# EAGLE library part MAX485 (library rhoban)
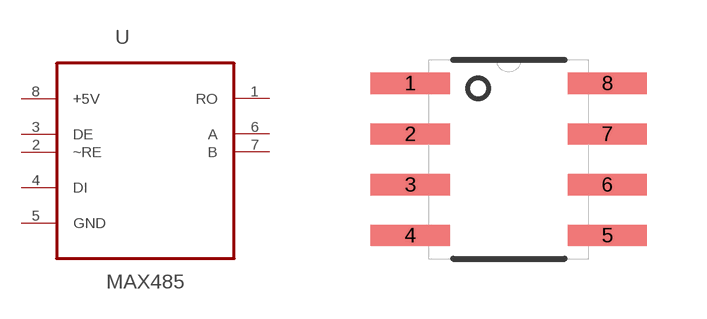
[diagram p0: symbol with the pads of SO8; footprint SO8]

Designator prefix U

## MAX485 (DATASHEET: max485.pdf; DESCRIPTION: ±15kV ESD-Protected, Slew-Rate-Limited, Low-Power, RS-485/RS-422 Transceivers; FARNELL_LINK: http://fr.farnell.com/maxim-integrated-products/max485eesa/transceiver-rs-485-422-cms/dp/1379973?Ntt=1379973; MPN: MAX485EESA+; OC_FARNELL: 1379973; OC_NEWARK: 68K4798; PACKAGE: SOIC-8; SUPPLIER: Maxim)  [SO8]
1  RO  out
2  ~RE  in
3  DE  in
4  DI  in
5  GND  pas
6  A
7  B
8  +5V  pwr

## Footprint SO8 (pad centres in mm)
smd 1.981 x 0.533: 1 -2.464,1.905; 2 -2.464,0.635; 3 -2.464,-0.635; 4 -2.464,-1.905; 5 2.464,-1.905; 6 2.464,-0.635; 7 2.464,0.635; 8 2.464,1.905